# EAGLE library part 2301996-5 (library Modular Jacks)
CONN MAGJACK 2PORT 100 BASE-T Manufacturer's datasheet <https://www.te.com/commerce/DocumentDelivery/DDEController?Action=srchrtrv&DocNm=2301996-5&DocType=Customer+Drawing&DocLang=English>
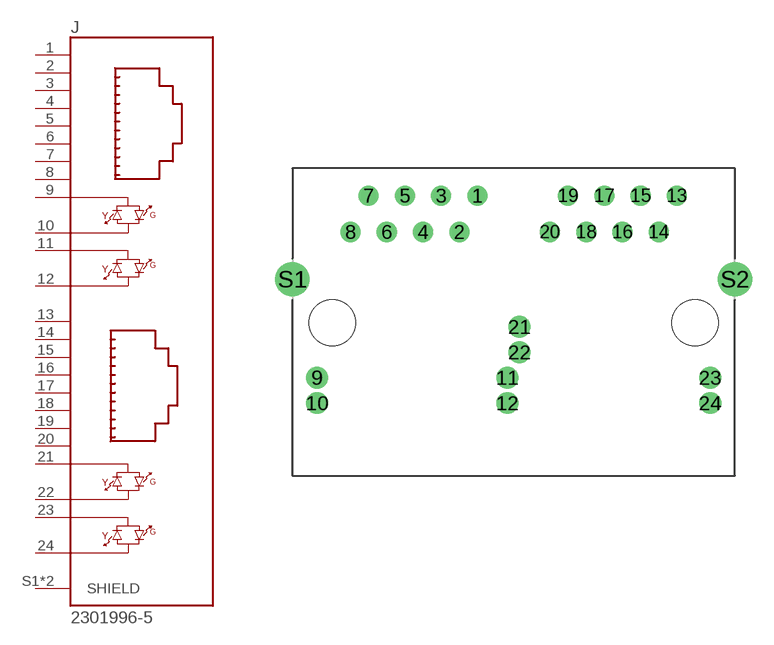
[diagram p12: symbol with the pads of 2301996-5; footprint 2301996-5]

Designator prefix J

## 2301996-5 (CREATED_BY: PCBLayout.com; DIGIKEY_PN: A126235TR-ND; MANUFACTURER: TE Connectivity AMP Connectors; MPN: 2301996-5)  [2301996-5]
1  1  pas
2  2  pas
3  3  pas
4  4  pas
5  5  pas
6  6  pas
7  7  pas
8  8  pas
9  9  pas
10  10  pas
11  11  pas
12  12  pas
13  13  pas
14  14  pas
15  15  pas
16  16  pas
17  17  pas
18  18  pas
19  19  pas
20  20  pas
21  21  pas
22  22  pas
23  23  pas
24  24  pas
S1  SHIELD  pwr
S2  SHIELD  pwr

## Footprint 2301996-5 (pad centres in mm)
drill 0.9: 1 -2.54,8.89; 2 -3.81,6.35; 3 -5.08,8.89; 4 -6.35,6.35; 5 -7.62,8.89; 6 -8.89,6.35; 7 -10.16,8.89; 8 -11.43,6.35; 13 11.43,8.89; 14 10.16,6.35; 15 8.89,8.89; 16 7.62,6.35; 17 6.35,8.89; 18 5.08,6.35; 19 3.81,8.89; 20 2.54,6.35
drill 1.02: 9 -13.77,-3.84; 10 -13.77,-5.62; 11 -0.44,-3.84; 12 -0.44,-5.62; 21 0.41,-0.28; 22 0.41,-2.06; 23 13.77,-3.84; 24 13.77,-5.62
drill 1.6: S1 -15.5,3.05; S2 15.5,3.05
hole 3.25 at -12.7,0
hole 3.25 at 12.7,0